# Altium schematic symbol library RC0805.SchLib: 789 symbols (part 10 of 11)
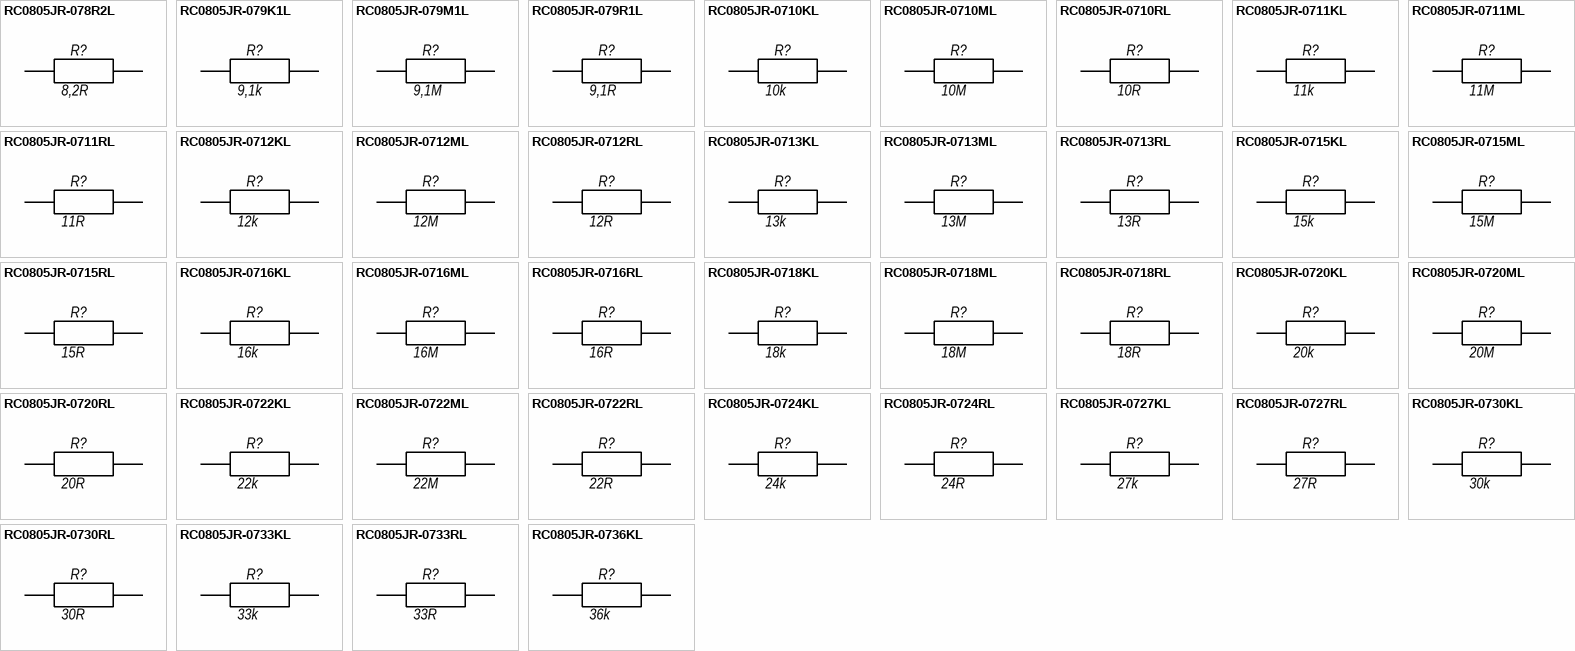
[diagram p28: symbols RC0805JR-078R2L to RC0805JR-0736KL]

## RC0805JR-0720ML
designator R?, comment 20M
RC0805JR-0720ML 0805 20 MOhm ±5% 1/8W 0805 SMD -55C...+155C; Manufacturer: Yageo; BOM2: 20 МОм ±5%, 1/8 Вт, SMD 0805, RC0805JR-0720ML; ValueBOM: RC0805JR-0720ML   Yageo                            (20 МОм ±5%, 1/8 Вт, SMD 0805, RC0805JR-0720ML); Value: 20M; Part Number: RC0805JR-0720ML; Package: 0805; BOM1: 20 MOhm ±5% 1/8W 0805 SMD
footprint RESC_0805_2012N (Chip Resistor, Body 2.0x1.3mm, IPC Medium Density)
footprint RESC_0805_2012M (Chip Resistor, Body 2.0x1.3mm, IPC Low Density)
footprint RESC_0805_2012L (Chip Resistor, Body 2.0x1.3mm, IPC High Density)
pins: 1, 2

## RC0805JR-0720RL
designator R?, comment 20R
RC0805JR-0720RL 0805 20 Ohm ±5% 1/8W 0805 SMD -55C...+155C; Manufacturer: Yageo; BOM2: 20 Ом ±5%, 1/8 Вт, SMD 0805, RC0805JR-0720RL; ValueBOM: RC0805JR-0720RL   Yageo                            (20 Ом ±5%, 1/8 Вт, SMD 0805, RC0805JR-0720RL); Value: 20R; Part Number: RC0805JR-0720RL; Package: 0805; BOM1: 20 Ohm ±5% 1/8W 0805 SMD
footprint RESC_0805_2012N (Chip Resistor, Body 2.0x1.3mm, IPC Medium Density)
footprint RESC_0805_2012M (Chip Resistor, Body 2.0x1.3mm, IPC Low Density)
footprint RESC_0805_2012L (Chip Resistor, Body 2.0x1.3mm, IPC High Density)
pins: 1, 2

## RC0805JR-0722KL
designator R?, comment 22k
RC0805JR-0722KL 0805 22 kOhm ±5% 1/8W 0805 SMD -55C...+155C; Manufacturer: Yageo; BOM2: 22 кОм ±5%, 1/8 Вт, SMD 0805, RC0805JR-0722KL; ValueBOM: RC0805JR-0722KL   Yageo                            (22 кОм ±5%, 1/8 Вт, SMD 0805, RC0805JR-0722KL); Value: 22k; Part Number: RC0805JR-0722KL; Package: 0805; BOM1: 22 kOhm ±5% 1/8W 0805 SMD
footprint RESC_0805_2012N (Chip Resistor, Body 2.0x1.3mm, IPC Medium Density)
footprint RESC_0805_2012M (Chip Resistor, Body 2.0x1.3mm, IPC Low Density)
footprint RESC_0805_2012L (Chip Resistor, Body 2.0x1.3mm, IPC High Density)
pins: 1, 2

## RC0805JR-0722ML
designator R?, comment 22M
RC0805JR-0722ML 0805 22 MOhm ±5% 1/8W 0805 SMD -55C...+155C; Manufacturer: Yageo; BOM2: 22 МОм ±5%, 1/8 Вт, SMD 0805, RC0805JR-0722ML; ValueBOM: RC0805JR-0722ML   Yageo                            (22 МОм ±5%, 1/8 Вт, SMD 0805, RC0805JR-0722ML); Value: 22M; Part Number: RC0805JR-0722ML; Package: 0805; BOM1: 22 MOhm ±5% 1/8W 0805 SMD
footprint RESC_0805_2012N (Chip Resistor, Body 2.0x1.3mm, IPC Medium Density)
footprint RESC_0805_2012M (Chip Resistor, Body 2.0x1.3mm, IPC Low Density)
footprint RESC_0805_2012L (Chip Resistor, Body 2.0x1.3mm, IPC High Density)
pins: 1, 2

## RC0805JR-0722RL
designator R?, comment 22R
RC0805JR-0722RL 0805 22 Ohm ±5% 1/8W 0805 SMD -55C...+155C; Manufacturer: Yageo; BOM2: 22 Ом ±5%, 1/8 Вт, SMD 0805, RC0805JR-0722RL; ValueBOM: RC0805JR-0722RL   Yageo                            (22 Ом ±5%, 1/8 Вт, SMD 0805, RC0805JR-0722RL); Value: 22R; Part Number: RC0805JR-0722RL; Package: 0805; BOM1: 22 Ohm ±5% 1/8W 0805 SMD
footprint RESC_0805_2012N (Chip Resistor, Body 2.0x1.3mm, IPC Medium Density)
footprint RESC_0805_2012M (Chip Resistor, Body 2.0x1.3mm, IPC Low Density)
footprint RESC_0805_2012L (Chip Resistor, Body 2.0x1.3mm, IPC High Density)
pins: 1, 2

## RC0805JR-0724KL
designator R?, comment 24k
RC0805JR-0724KL 0805 24 kOhm ±5% 1/8W 0805 SMD -55C...+155C; Manufacturer: Yageo; BOM2: 24 кОм ±5%, 1/8 Вт, SMD 0805, RC0805JR-0724KL; ValueBOM: RC0805JR-0724KL   Yageo                            (24 кОм ±5%, 1/8 Вт, SMD 0805, RC0805JR-0724KL); Value: 24k; Part Number: RC0805JR-0724KL; Package: 0805; BOM1: 24 kOhm ±5% 1/8W 0805 SMD
footprint RESC_0805_2012N (Chip Resistor, Body 2.0x1.3mm, IPC Medium Density)
footprint RESC_0805_2012M (Chip Resistor, Body 2.0x1.3mm, IPC Low Density)
footprint RESC_0805_2012L (Chip Resistor, Body 2.0x1.3mm, IPC High Density)
pins: 1, 2

## RC0805JR-0724RL
designator R?, comment 24R
RC0805JR-0724RL 0805 24 Ohm ±5% 1/8W 0805 SMD -55C...+155C; Manufacturer: Yageo; BOM2: 24 Ом ±5%, 1/8 Вт, SMD 0805, RC0805JR-0724RL; ValueBOM: RC0805JR-0724RL   Yageo                            (24 Ом ±5%, 1/8 Вт, SMD 0805, RC0805JR-0724RL); Value: 24R; Part Number: RC0805JR-0724RL; Package: 0805; BOM1: 24 Ohm ±5% 1/8W 0805 SMD
footprint RESC_0805_2012N (Chip Resistor, Body 2.0x1.3mm, IPC Medium Density)
footprint RESC_0805_2012M (Chip Resistor, Body 2.0x1.3mm, IPC Low Density)
footprint RESC_0805_2012L (Chip Resistor, Body 2.0x1.3mm, IPC High Density)
pins: 1, 2

## RC0805JR-0727KL
designator R?, comment 27k
RC0805JR-0727KL 0805 27 kOhm ±5% 1/8W 0805 SMD -55C...+155C; Manufacturer: Yageo; BOM2: 27 кОм ±5%, 1/8 Вт, SMD 0805, RC0805JR-0727KL; ValueBOM: RC0805JR-0727KL   Yageo                            (27 кОм ±5%, 1/8 Вт, SMD 0805, RC0805JR-0727KL); Value: 27k; Part Number: RC0805JR-0727KL; Package: 0805; BOM1: 27 kOhm ±5% 1/8W 0805 SMD
footprint RESC_0805_2012N (Chip Resistor, Body 2.0x1.3mm, IPC Medium Density)
footprint RESC_0805_2012M (Chip Resistor, Body 2.0x1.3mm, IPC Low Density)
footprint RESC_0805_2012L (Chip Resistor, Body 2.0x1.3mm, IPC High Density)
pins: 1, 2

## RC0805JR-0727RL
designator R?, comment 27R
RC0805JR-0727RL 0805 27 Ohm ±5% 1/8W 0805 SMD -55C...+155C; Manufacturer: Yageo; BOM2: 27 Ом ±5%, 1/8 Вт, SMD 0805, RC0805JR-0727RL; ValueBOM: RC0805JR-0727RL   Yageo                            (27 Ом ±5%, 1/8 Вт, SMD 0805, RC0805JR-0727RL); Value: 27R; Part Number: RC0805JR-0727RL; Package: 0805; BOM1: 27 Ohm ±5% 1/8W 0805 SMD
footprint RESC_0805_2012N (Chip Resistor, Body 2.0x1.3mm, IPC Medium Density)
footprint RESC_0805_2012M (Chip Resistor, Body 2.0x1.3mm, IPC Low Density)
footprint RESC_0805_2012L (Chip Resistor, Body 2.0x1.3mm, IPC High Density)
pins: 1, 2

## RC0805JR-0730KL
designator R?, comment 30k
RC0805JR-0730KL 0805 30 kOhm ±5% 1/8W 0805 SMD -55C...+155C; Manufacturer: Yageo; BOM2: 30 кОм ±5%, 1/8 Вт, SMD 0805, RC0805JR-0730KL; ValueBOM: RC0805JR-0730KL   Yageo                            (30 кОм ±5%, 1/8 Вт, SMD 0805, RC0805JR-0730KL); Value: 30k; Part Number: RC0805JR-0730KL; Package: 0805; BOM1: 30 kOhm ±5% 1/8W 0805 SMD
footprint RESC_0805_2012N (Chip Resistor, Body 2.0x1.3mm, IPC Medium Density)
footprint RESC_0805_2012M (Chip Resistor, Body 2.0x1.3mm, IPC Low Density)
footprint RESC_0805_2012L (Chip Resistor, Body 2.0x1.3mm, IPC High Density)
pins: 1, 2

## RC0805JR-0730RL
designator R?, comment 30R
RC0805JR-0730RL 0805 30 Ohm ±5% 1/8W 0805 SMD -55C...+155C; Manufacturer: Yageo; BOM2: 30 Ом ±5%, 1/8 Вт, SMD 0805, RC0805JR-0730RL; ValueBOM: RC0805JR-0730RL   Yageo                            (30 Ом ±5%, 1/8 Вт, SMD 0805, RC0805JR-0730RL); Value: 30R; Part Number: RC0805JR-0730RL; Package: 0805; BOM1: 30 Ohm ±5% 1/8W 0805 SMD
footprint RESC_0805_2012N (Chip Resistor, Body 2.0x1.3mm, IPC Medium Density)
footprint RESC_0805_2012M (Chip Resistor, Body 2.0x1.3mm, IPC Low Density)
footprint RESC_0805_2012L (Chip Resistor, Body 2.0x1.3mm, IPC High Density)
pins: 1, 2

## RC0805JR-0733KL
designator R?, comment 33k
RC0805JR-0733KL 0805 33 kOhm ±5% 1/8W 0805 SMD -55C...+155C; Manufacturer: Yageo; BOM2: 33 кОм ±5%, 1/8 Вт, SMD 0805, RC0805JR-0733KL; ValueBOM: RC0805JR-0733KL   Yageo                            (33 кОм ±5%, 1/8 Вт, SMD 0805, RC0805JR-0733KL); Value: 33k; Part Number: RC0805JR-0733KL; Package: 0805; BOM1: 33 kOhm ±5% 1/8W 0805 SMD
footprint RESC_0805_2012N (Chip Resistor, Body 2.0x1.3mm, IPC Medium Density)
footprint RESC_0805_2012M (Chip Resistor, Body 2.0x1.3mm, IPC Low Density)
footprint RESC_0805_2012L (Chip Resistor, Body 2.0x1.3mm, IPC High Density)
pins: 1, 2

## RC0805JR-0733RL
designator R?, comment 33R
RC0805JR-0733RL 0805 33 Ohm ±5% 1/8W 0805 SMD -55C...+155C; Manufacturer: Yageo; BOM2: 33 Ом ±5%, 1/8 Вт, SMD 0805, RC0805JR-0733RL; ValueBOM: RC0805JR-0733RL   Yageo                            (33 Ом ±5%, 1/8 Вт, SMD 0805, RC0805JR-0733RL); Value: 33R; Part Number: RC0805JR-0733RL; Package: 0805; BOM1: 33 Ohm ±5% 1/8W 0805 SMD
footprint RESC_0805_2012N (Chip Resistor, Body 2.0x1.3mm, IPC Medium Density)
footprint RESC_0805_2012M (Chip Resistor, Body 2.0x1.3mm, IPC Low Density)
footprint RESC_0805_2012L (Chip Resistor, Body 2.0x1.3mm, IPC High Density)
pins: 1, 2

## RC0805JR-0736KL
designator R?, comment 36k
RC0805JR-0736KL 0805 36 kOhm ±5% 1/8W 0805 SMD -55C...+155C; Manufacturer: Yageo; BOM2: 36 кОм ±5%, 1/8 Вт, SMD 0805, RC0805JR-0736KL; ValueBOM: RC0805JR-0736KL   Yageo                            (36 кОм ±5%, 1/8 Вт, SMD 0805, RC0805JR-0736KL); Value: 36k; Part Number: RC0805JR-0736KL; Package: 0805; BOM1: 36 kOhm ±5% 1/8W 0805 SMD
footprint RESC_0805_2012N (Chip Resistor, Body 2.0x1.3mm, IPC Medium Density)
footprint RESC_0805_2012M (Chip Resistor, Body 2.0x1.3mm, IPC Low Density)
footprint RESC_0805_2012L (Chip Resistor, Body 2.0x1.3mm, IPC High Density)
pins: 1, 2

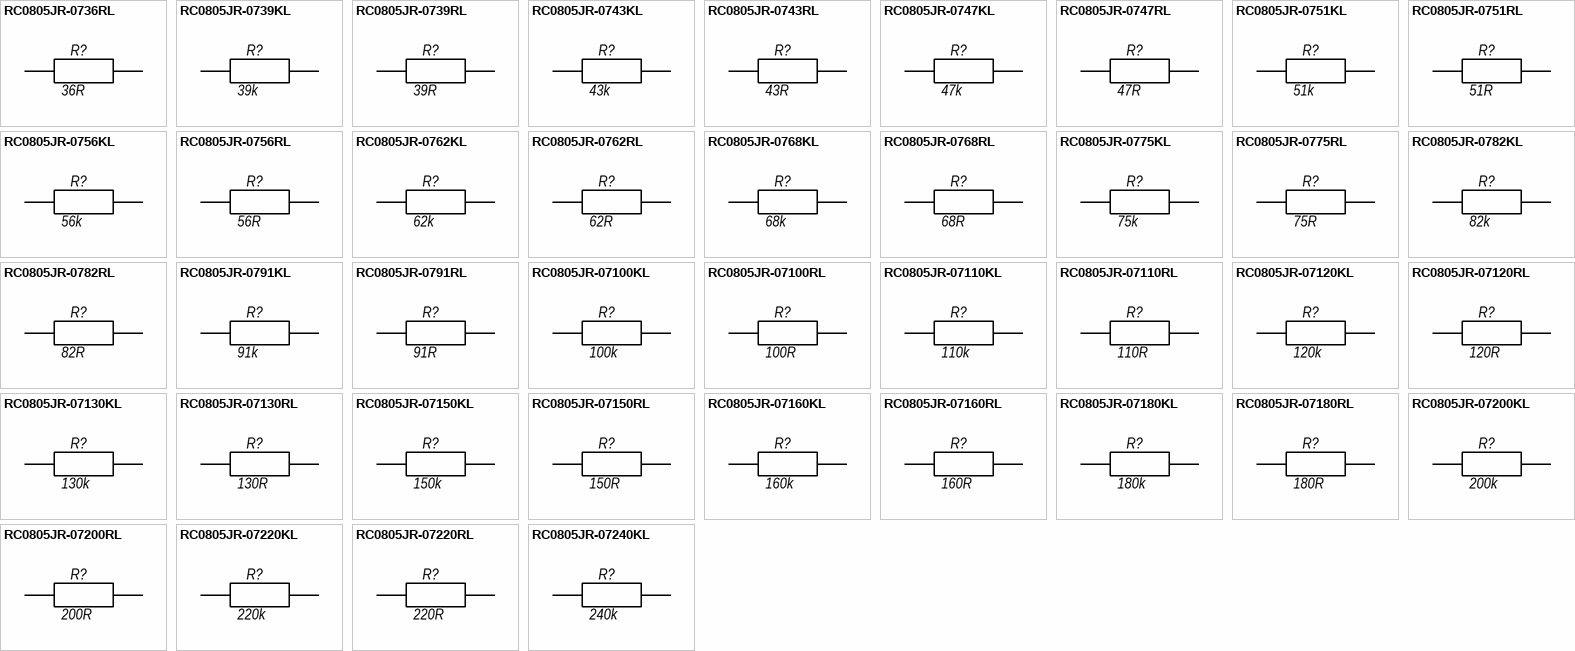
[diagram p18: symbols RC0805JR-0736RL to RC0805JR-07240KL]

## RC0805JR-0736RL
designator R?, comment 36R
RC0805JR-0736RL 0805 36 Ohm ±5% 1/8W 0805 SMD -55C...+155C; Manufacturer: Yageo; BOM2: 36 Ом ±5%, 1/8 Вт, SMD 0805, RC0805JR-0736RL; ValueBOM: RC0805JR-0736RL   Yageo                            (36 Ом ±5%, 1/8 Вт, SMD 0805, RC0805JR-0736RL); Value: 36R; Part Number: RC0805JR-0736RL; Package: 0805; BOM1: 36 Ohm ±5% 1/8W 0805 SMD
footprint RESC_0805_2012N (Chip Resistor, Body 2.0x1.3mm, IPC Medium Density)
footprint RESC_0805_2012M (Chip Resistor, Body 2.0x1.3mm, IPC Low Density)
footprint RESC_0805_2012L (Chip Resistor, Body 2.0x1.3mm, IPC High Density)
pins: 1, 2

## RC0805JR-0739KL
designator R?, comment 39k
RC0805JR-0739KL 0805 39 kOhm ±5% 1/8W 0805 SMD -55C...+155C; Manufacturer: Yageo; BOM2: 39 кОм ±5%, 1/8 Вт, SMD 0805, RC0805JR-0739KL; ValueBOM: RC0805JR-0739KL   Yageo                            (39 кОм ±5%, 1/8 Вт, SMD 0805, RC0805JR-0739KL); Value: 39k; Part Number: RC0805JR-0739KL; Package: 0805; BOM1: 39 kOhm ±5% 1/8W 0805 SMD
footprint RESC_0805_2012N (Chip Resistor, Body 2.0x1.3mm, IPC Medium Density)
footprint RESC_0805_2012M (Chip Resistor, Body 2.0x1.3mm, IPC Low Density)
footprint RESC_0805_2012L (Chip Resistor, Body 2.0x1.3mm, IPC High Density)
pins: 1, 2

## RC0805JR-0739RL
designator R?, comment 39R
RC0805JR-0739RL 0805 39 Ohm ±5% 1/8W 0805 SMD -55C...+155C; Manufacturer: Yageo; BOM2: 39 Ом ±5%, 1/8 Вт, SMD 0805, RC0805JR-0739RL; ValueBOM: RC0805JR-0739RL   Yageo                            (39 Ом ±5%, 1/8 Вт, SMD 0805, RC0805JR-0739RL); Value: 39R; Part Number: RC0805JR-0739RL; Package: 0805; BOM1: 39 Ohm ±5% 1/8W 0805 SMD
footprint RESC_0805_2012N (Chip Resistor, Body 2.0x1.3mm, IPC Medium Density)
footprint RESC_0805_2012M (Chip Resistor, Body 2.0x1.3mm, IPC Low Density)
footprint RESC_0805_2012L (Chip Resistor, Body 2.0x1.3mm, IPC High Density)
pins: 1, 2

## RC0805JR-0743KL
designator R?, comment 43k
RC0805JR-0743KL 0805 43 kOhm ±5% 1/8W 0805 SMD -55C...+155C; Manufacturer: Yageo; BOM2: 43 кОм ±5%, 1/8 Вт, SMD 0805, RC0805JR-0743KL; ValueBOM: RC0805JR-0743KL   Yageo                            (43 кОм ±5%, 1/8 Вт, SMD 0805, RC0805JR-0743KL); Value: 43k; Part Number: RC0805JR-0743KL; Package: 0805; BOM1: 43 kOhm ±5% 1/8W 0805 SMD
footprint RESC_0805_2012N (Chip Resistor, Body 2.0x1.3mm, IPC Medium Density)
footprint RESC_0805_2012M (Chip Resistor, Body 2.0x1.3mm, IPC Low Density)
footprint RESC_0805_2012L (Chip Resistor, Body 2.0x1.3mm, IPC High Density)
pins: 1, 2

## RC0805JR-0743RL
designator R?, comment 43R
RC0805JR-0743RL 0805 43 Ohm ±5% 1/8W 0805 SMD -55C...+155C; Manufacturer: Yageo; BOM2: 43 Ом ±5%, 1/8 Вт, SMD 0805, RC0805JR-0743RL; ValueBOM: RC0805JR-0743RL   Yageo                            (43 Ом ±5%, 1/8 Вт, SMD 0805, RC0805JR-0743RL); Value: 43R; Part Number: RC0805JR-0743RL; Package: 0805; BOM1: 43 Ohm ±5% 1/8W 0805 SMD
footprint RESC_0805_2012N (Chip Resistor, Body 2.0x1.3mm, IPC Medium Density)
footprint RESC_0805_2012M (Chip Resistor, Body 2.0x1.3mm, IPC Low Density)
footprint RESC_0805_2012L (Chip Resistor, Body 2.0x1.3mm, IPC High Density)
pins: 1, 2

## RC0805JR-0747KL
designator R?, comment 47k
RC0805JR-0747KL 0805 47 kOhm ±5% 1/8W 0805 SMD -55C...+155C; Manufacturer: Yageo; BOM2: 47 кОм ±5%, 1/8 Вт, SMD 0805, RC0805JR-0747KL; ValueBOM: RC0805JR-0747KL   Yageo                            (47 кОм ±5%, 1/8 Вт, SMD 0805, RC0805JR-0747KL); Value: 47k; Part Number: RC0805JR-0747KL; Package: 0805; BOM1: 47 kOhm ±5% 1/8W 0805 SMD
footprint RESC_0805_2012N (Chip Resistor, Body 2.0x1.3mm, IPC Medium Density)
footprint RESC_0805_2012M (Chip Resistor, Body 2.0x1.3mm, IPC Low Density)
footprint RESC_0805_2012L (Chip Resistor, Body 2.0x1.3mm, IPC High Density)
pins: 1, 2

## RC0805JR-0747RL
designator R?, comment 47R
RC0805JR-0747RL 0805 47 Ohm ±5% 1/8W 0805 SMD -55C...+155C; Manufacturer: Yageo; BOM2: 47 Ом ±5%, 1/8 Вт, SMD 0805, RC0805JR-0747RL; ValueBOM: RC0805JR-0747RL   Yageo                            (47 Ом ±5%, 1/8 Вт, SMD 0805, RC0805JR-0747RL); Value: 47R; Part Number: RC0805JR-0747RL; Package: 0805; BOM1: 47 Ohm ±5% 1/8W 0805 SMD
footprint RESC_0805_2012N (Chip Resistor, Body 2.0x1.3mm, IPC Medium Density)
footprint RESC_0805_2012M (Chip Resistor, Body 2.0x1.3mm, IPC Low Density)
footprint RESC_0805_2012L (Chip Resistor, Body 2.0x1.3mm, IPC High Density)
pins: 1, 2

## RC0805JR-0751KL
designator R?, comment 51k
RC0805JR-0751KL 0805 51 kOhm ±5% 1/8W 0805 SMD -55C...+155C; Manufacturer: Yageo; BOM2: 51 кОм ±5%, 1/8 Вт, SMD 0805, RC0805JR-0751KL; ValueBOM: RC0805JR-0751KL   Yageo                            (51 кОм ±5%, 1/8 Вт, SMD 0805, RC0805JR-0751KL); Value: 51k; Part Number: RC0805JR-0751KL; Package: 0805; BOM1: 51 kOhm ±5% 1/8W 0805 SMD
footprint RESC_0805_2012N (Chip Resistor, Body 2.0x1.3mm, IPC Medium Density)
footprint RESC_0805_2012M (Chip Resistor, Body 2.0x1.3mm, IPC Low Density)
footprint RESC_0805_2012L (Chip Resistor, Body 2.0x1.3mm, IPC High Density)
pins: 1, 2

## RC0805JR-0751RL
designator R?, comment 51R
RC0805JR-0751RL 0805 51 Ohm ±5% 1/8W 0805 SMD -55C...+155C; Manufacturer: Yageo; BOM2: 51 Ом ±5%, 1/8 Вт, SMD 0805, RC0805JR-0751RL; ValueBOM: RC0805JR-0751RL   Yageo                            (51 Ом ±5%, 1/8 Вт, SMD 0805, RC0805JR-0751RL); Value: 51R; Part Number: RC0805JR-0751RL; Package: 0805; BOM1: 51 Ohm ±5% 1/8W 0805 SMD
footprint RESC_0805_2012N (Chip Resistor, Body 2.0x1.3mm, IPC Medium Density)
footprint RESC_0805_2012M (Chip Resistor, Body 2.0x1.3mm, IPC Low Density)
footprint RESC_0805_2012L (Chip Resistor, Body 2.0x1.3mm, IPC High Density)
pins: 1, 2

## RC0805JR-0756KL
designator R?, comment 56k
RC0805JR-0756KL 0805 56 kOhm ±5% 1/8W 0805 SMD -55C...+155C; Manufacturer: Yageo; BOM2: 56 кОм ±5%, 1/8 Вт, SMD 0805, RC0805JR-0756KL; ValueBOM: RC0805JR-0756KL   Yageo                            (56 кОм ±5%, 1/8 Вт, SMD 0805, RC0805JR-0756KL); Value: 56k; Part Number: RC0805JR-0756KL; Package: 0805; BOM1: 56 kOhm ±5% 1/8W 0805 SMD
footprint RESC_0805_2012N (Chip Resistor, Body 2.0x1.3mm, IPC Medium Density)
footprint RESC_0805_2012M (Chip Resistor, Body 2.0x1.3mm, IPC Low Density)
footprint RESC_0805_2012L (Chip Resistor, Body 2.0x1.3mm, IPC High Density)
pins: 1, 2

## RC0805JR-0756RL
designator R?, comment 56R
RC0805JR-0756RL 0805 56 Ohm ±5% 1/8W 0805 SMD -55C...+155C; Manufacturer: Yageo; BOM2: 56 Ом ±5%, 1/8 Вт, SMD 0805, RC0805JR-0756RL; ValueBOM: RC0805JR-0756RL   Yageo                            (56 Ом ±5%, 1/8 Вт, SMD 0805, RC0805JR-0756RL); Value: 56R; Part Number: RC0805JR-0756RL; Package: 0805; BOM1: 56 Ohm ±5% 1/8W 0805 SMD
footprint RESC_0805_2012N (Chip Resistor, Body 2.0x1.3mm, IPC Medium Density)
footprint RESC_0805_2012M (Chip Resistor, Body 2.0x1.3mm, IPC Low Density)
footprint RESC_0805_2012L (Chip Resistor, Body 2.0x1.3mm, IPC High Density)
pins: 1, 2

## RC0805JR-0762KL
designator R?, comment 62k
RC0805JR-0762KL 0805 62 kOhm ±5% 1/8W 0805 SMD -55C...+155C; Manufacturer: Yageo; BOM2: 62 кОм ±5%, 1/8 Вт, SMD 0805, RC0805JR-0762KL; ValueBOM: RC0805JR-0762KL   Yageo                            (62 кОм ±5%, 1/8 Вт, SMD 0805, RC0805JR-0762KL); Value: 62k; Part Number: RC0805JR-0762KL; Package: 0805; BOM1: 62 kOhm ±5% 1/8W 0805 SMD
footprint RESC_0805_2012N (Chip Resistor, Body 2.0x1.3mm, IPC Medium Density)
footprint RESC_0805_2012M (Chip Resistor, Body 2.0x1.3mm, IPC Low Density)
footprint RESC_0805_2012L (Chip Resistor, Body 2.0x1.3mm, IPC High Density)
pins: 1, 2

## RC0805JR-0762RL
designator R?, comment 62R
RC0805JR-0762RL 0805 62 Ohm ±5% 1/8W 0805 SMD -55C...+155C; Manufacturer: Yageo; BOM2: 62 Ом ±5%, 1/8 Вт, SMD 0805, RC0805JR-0762RL; ValueBOM: RC0805JR-0762RL   Yageo                            (62 Ом ±5%, 1/8 Вт, SMD 0805, RC0805JR-0762RL); Value: 62R; Part Number: RC0805JR-0762RL; Package: 0805; BOM1: 62 Ohm ±5% 1/8W 0805 SMD
footprint RESC_0805_2012N (Chip Resistor, Body 2.0x1.3mm, IPC Medium Density)
footprint RESC_0805_2012M (Chip Resistor, Body 2.0x1.3mm, IPC Low Density)
footprint RESC_0805_2012L (Chip Resistor, Body 2.0x1.3mm, IPC High Density)
pins: 1, 2

## RC0805JR-0768KL
designator R?, comment 68k
RC0805JR-0768KL 0805 68 kOhm ±5% 1/8W 0805 SMD -55C...+155C; Manufacturer: Yageo; BOM2: 68 кОм ±5%, 1/8 Вт, SMD 0805, RC0805JR-0768KL; ValueBOM: RC0805JR-0768KL   Yageo                            (68 кОм ±5%, 1/8 Вт, SMD 0805, RC0805JR-0768KL); Value: 68k; Part Number: RC0805JR-0768KL; Package: 0805; BOM1: 68 kOhm ±5% 1/8W 0805 SMD
footprint RESC_0805_2012N (Chip Resistor, Body 2.0x1.3mm, IPC Medium Density)
footprint RESC_0805_2012M (Chip Resistor, Body 2.0x1.3mm, IPC Low Density)
footprint RESC_0805_2012L (Chip Resistor, Body 2.0x1.3mm, IPC High Density)
pins: 1, 2

## RC0805JR-0768RL
designator R?, comment 68R
RC0805JR-0768RL 0805 68 Ohm ±5% 1/8W 0805 SMD -55C...+155C; Manufacturer: Yageo; BOM2: 68 Ом ±5%, 1/8 Вт, SMD 0805, RC0805JR-0768RL; ValueBOM: RC0805JR-0768RL   Yageo                            (68 Ом ±5%, 1/8 Вт, SMD 0805, RC0805JR-0768RL); Value: 68R; Part Number: RC0805JR-0768RL; Package: 0805; BOM1: 68 Ohm ±5% 1/8W 0805 SMD
footprint RESC_0805_2012N (Chip Resistor, Body 2.0x1.3mm, IPC Medium Density)
footprint RESC_0805_2012M (Chip Resistor, Body 2.0x1.3mm, IPC Low Density)
footprint RESC_0805_2012L (Chip Resistor, Body 2.0x1.3mm, IPC High Density)
pins: 1, 2

## RC0805JR-0775KL
designator R?, comment 75k
RC0805JR-0775KL 0805 75 kOhm ±5% 1/8W 0805 SMD -55C...+155C; Manufacturer: Yageo; BOM2: 75 кОм ±5%, 1/8 Вт, SMD 0805, RC0805JR-0775KL; ValueBOM: RC0805JR-0775KL   Yageo                            (75 кОм ±5%, 1/8 Вт, SMD 0805, RC0805JR-0775KL); Value: 75k; Part Number: RC0805JR-0775KL; Package: 0805; BOM1: 75 kOhm ±5% 1/8W 0805 SMD
footprint RESC_0805_2012N (Chip Resistor, Body 2.0x1.3mm, IPC Medium Density)
footprint RESC_0805_2012M (Chip Resistor, Body 2.0x1.3mm, IPC Low Density)
footprint RESC_0805_2012L (Chip Resistor, Body 2.0x1.3mm, IPC High Density)
pins: 1, 2

## RC0805JR-0775RL
designator R?, comment 75R
RC0805JR-0775RL 0805 75 Ohm ±5% 1/8W 0805 SMD -55C...+155C; Manufacturer: Yageo; BOM2: 75 Ом ±5%, 1/8 Вт, SMD 0805, RC0805JR-0775RL; ValueBOM: RC0805JR-0775RL   Yageo                            (75 Ом ±5%, 1/8 Вт, SMD 0805, RC0805JR-0775RL); Value: 75R; Part Number: RC0805JR-0775RL; Package: 0805; BOM1: 75 Ohm ±5% 1/8W 0805 SMD
footprint RESC_0805_2012N (Chip Resistor, Body 2.0x1.3mm, IPC Medium Density)
footprint RESC_0805_2012M (Chip Resistor, Body 2.0x1.3mm, IPC Low Density)
footprint RESC_0805_2012L (Chip Resistor, Body 2.0x1.3mm, IPC High Density)
pins: 1, 2

## RC0805JR-0782KL
designator R?, comment 82k
RC0805JR-0782KL 0805 82 kOhm ±5% 1/8W 0805 SMD -55C...+155C; Manufacturer: Yageo; BOM2: 82 кОм ±5%, 1/8 Вт, SMD 0805, RC0805JR-0782KL; ValueBOM: RC0805JR-0782KL   Yageo                            (82 кОм ±5%, 1/8 Вт, SMD 0805, RC0805JR-0782KL); Value: 82k; Part Number: RC0805JR-0782KL; Package: 0805; BOM1: 82 kOhm ±5% 1/8W 0805 SMD
footprint RESC_0805_2012N (Chip Resistor, Body 2.0x1.3mm, IPC Medium Density)
footprint RESC_0805_2012M (Chip Resistor, Body 2.0x1.3mm, IPC Low Density)
footprint RESC_0805_2012L (Chip Resistor, Body 2.0x1.3mm, IPC High Density)
pins: 1, 2

## RC0805JR-0782RL
designator R?, comment 82R
RC0805JR-0782RL 0805 82 Ohm ±5% 1/8W 0805 SMD -55C...+155C; Manufacturer: Yageo; BOM2: 82 Ом ±5%, 1/8 Вт, SMD 0805, RC0805JR-0782RL; ValueBOM: RC0805JR-0782RL   Yageo                            (82 Ом ±5%, 1/8 Вт, SMD 0805, RC0805JR-0782RL); Value: 82R; Part Number: RC0805JR-0782RL; Package: 0805; BOM1: 82 Ohm ±5% 1/8W 0805 SMD
footprint RESC_0805_2012N (Chip Resistor, Body 2.0x1.3mm, IPC Medium Density)
footprint RESC_0805_2012M (Chip Resistor, Body 2.0x1.3mm, IPC Low Density)
footprint RESC_0805_2012L (Chip Resistor, Body 2.0x1.3mm, IPC High Density)
pins: 1, 2

## RC0805JR-0791KL
designator R?, comment 91k
RC0805JR-0791KL 0805 91 kOhm ±5% 1/8W 0805 SMD -55C...+155C; Manufacturer: Yageo; BOM2: 91 кОм ±5%, 1/8 Вт, SMD 0805, RC0805JR-0791KL; ValueBOM: RC0805JR-0791KL   Yageo                            (91 кОм ±5%, 1/8 Вт, SMD 0805, RC0805JR-0791KL); Value: 91k; Part Number: RC0805JR-0791KL; Package: 0805; BOM1: 91 kOhm ±5% 1/8W 0805 SMD
footprint RESC_0805_2012N (Chip Resistor, Body 2.0x1.3mm, IPC Medium Density)
footprint RESC_0805_2012M (Chip Resistor, Body 2.0x1.3mm, IPC Low Density)
footprint RESC_0805_2012L (Chip Resistor, Body 2.0x1.3mm, IPC High Density)
pins: 1, 2

## RC0805JR-0791RL
designator R?, comment 91R
RC0805JR-0791RL 0805 91 Ohm ±5% 1/8W 0805 SMD -55C...+155C; Manufacturer: Yageo; BOM2: 91 Ом ±5%, 1/8 Вт, SMD 0805, RC0805JR-0791RL; ValueBOM: RC0805JR-0791RL   Yageo                            (91 Ом ±5%, 1/8 Вт, SMD 0805, RC0805JR-0791RL); Value: 91R; Part Number: RC0805JR-0791RL; Package: 0805; BOM1: 91 Ohm ±5% 1/8W 0805 SMD
footprint RESC_0805_2012N (Chip Resistor, Body 2.0x1.3mm, IPC Medium Density)
footprint RESC_0805_2012M (Chip Resistor, Body 2.0x1.3mm, IPC Low Density)
footprint RESC_0805_2012L (Chip Resistor, Body 2.0x1.3mm, IPC High Density)
pins: 1, 2

## RC0805JR-07100KL
designator R?, comment 100k
RC0805JR-07100KL 0805 100 kOhm ±5% 1/8W 0805 SMD -55C...+155C; Manufacturer: Yageo; BOM2: 100 кОм ±5%, 1/8 Вт, SMD 0805, RC0805JR-07100KL; ValueBOM: RC0805JR-07100KL   Yageo                            (100 кОм ±5%, 1/8 Вт, SMD 0805, RC0805JR-07100KL); Value: 100k; Part Number: RC0805JR-07100KL; Package: 0805; BOM1: 100 kOhm ±5% 1/8W 0805 SMD
footprint RESC_0805_2012N (Chip Resistor, Body 2.0x1.3mm, IPC Medium Density)
footprint RESC_0805_2012M (Chip Resistor, Body 2.0x1.3mm, IPC Low Density)
footprint RESC_0805_2012L (Chip Resistor, Body 2.0x1.3mm, IPC High Density)
pins: 1, 2

## RC0805JR-07100RL
designator R?, comment 100R
RC0805JR-07100RL 0805 100 Ohm ±5% 1/8W 0805 SMD -55C...+155C; Manufacturer: Yageo; BOM2: 100 Ом ±5%, 1/8 Вт, SMD 0805, RC0805JR-07100RL; ValueBOM: RC0805JR-07100RL   Yageo                            (100 Ом ±5%, 1/8 Вт, SMD 0805, RC0805JR-07100RL); Value: 100R; Part Number: RC0805JR-07100RL; Package: 0805; BOM1: 100 Ohm ±5% 1/8W 0805 SMD
footprint RESC_0805_2012N (Chip Resistor, Body 2.0x1.3mm, IPC Medium Density)
footprint RESC_0805_2012M (Chip Resistor, Body 2.0x1.3mm, IPC Low Density)
footprint RESC_0805_2012L (Chip Resistor, Body 2.0x1.3mm, IPC High Density)
pins: 1, 2

## RC0805JR-07110KL
designator R?, comment 110k
RC0805JR-07110KL 0805 110 kOhm ±5% 1/8W 0805 SMD -55C...+155C; Manufacturer: Yageo; BOM2: 110 кОм ±5%, 1/8 Вт, SMD 0805, RC0805JR-07110KL; ValueBOM: RC0805JR-07110KL   Yageo                            (110 кОм ±5%, 1/8 Вт, SMD 0805, RC0805JR-07110KL); Value: 110k; Part Number: RC0805JR-07110KL; Package: 0805; BOM1: 110 kOhm ±5% 1/8W 0805 SMD
footprint RESC_0805_2012N (Chip Resistor, Body 2.0x1.3mm, IPC Medium Density)
footprint RESC_0805_2012M (Chip Resistor, Body 2.0x1.3mm, IPC Low Density)
footprint RESC_0805_2012L (Chip Resistor, Body 2.0x1.3mm, IPC High Density)
pins: 1, 2

## RC0805JR-07110RL
designator R?, comment 110R
RC0805JR-07110RL 0805 110 Ohm ±5% 1/8W 0805 SMD -55C...+155C; Manufacturer: Yageo; BOM2: 110 Ом ±5%, 1/8 Вт, SMD 0805, RC0805JR-07110RL; ValueBOM: RC0805JR-07110RL   Yageo                            (110 Ом ±5%, 1/8 Вт, SMD 0805, RC0805JR-07110RL); Value: 110R; Part Number: RC0805JR-07110RL; Package: 0805; BOM1: 110 Ohm ±5% 1/8W 0805 SMD
footprint RESC_0805_2012N (Chip Resistor, Body 2.0x1.3mm, IPC Medium Density)
footprint RESC_0805_2012M (Chip Resistor, Body 2.0x1.3mm, IPC Low Density)
footprint RESC_0805_2012L (Chip Resistor, Body 2.0x1.3mm, IPC High Density)
pins: 1, 2

## RC0805JR-07120KL
designator R?, comment 120k
RC0805JR-07120KL 0805 120 kOhm ±5% 1/8W 0805 SMD -55C...+155C; Manufacturer: Yageo; BOM2: 120 кОм ±5%, 1/8 Вт, SMD 0805, RC0805JR-07120KL; ValueBOM: RC0805JR-07120KL   Yageo                            (120 кОм ±5%, 1/8 Вт, SMD 0805, RC0805JR-07120KL); Value: 120k; Part Number: RC0805JR-07120KL; Package: 0805; BOM1: 120 kOhm ±5% 1/8W 0805 SMD
footprint RESC_0805_2012N (Chip Resistor, Body 2.0x1.3mm, IPC Medium Density)
footprint RESC_0805_2012M (Chip Resistor, Body 2.0x1.3mm, IPC Low Density)
footprint RESC_0805_2012L (Chip Resistor, Body 2.0x1.3mm, IPC High Density)
pins: 1, 2

## RC0805JR-07120RL
designator R?, comment 120R
RC0805JR-07120RL 0805 120 Ohm ±5% 1/8W 0805 SMD -55C...+155C; Manufacturer: Yageo; BOM2: 120 Ом ±5%, 1/8 Вт, SMD 0805, RC0805JR-07120RL; ValueBOM: RC0805JR-07120RL   Yageo                            (120 Ом ±5%, 1/8 Вт, SMD 0805, RC0805JR-07120RL); Value: 120R; Part Number: RC0805JR-07120RL; Package: 0805; BOM1: 120 Ohm ±5% 1/8W 0805 SMD
footprint RESC_0805_2012N (Chip Resistor, Body 2.0x1.3mm, IPC Medium Density)
footprint RESC_0805_2012M (Chip Resistor, Body 2.0x1.3mm, IPC Low Density)
footprint RESC_0805_2012L (Chip Resistor, Body 2.0x1.3mm, IPC High Density)
pins: 1, 2

## RC0805JR-07130KL
designator R?, comment 130k
RC0805JR-07130KL 0805 130 kOhm ±5% 1/8W 0805 SMD -55C...+155C; Manufacturer: Yageo; BOM2: 130 кОм ±5%, 1/8 Вт, SMD 0805, RC0805JR-07130KL; ValueBOM: RC0805JR-07130KL   Yageo                            (130 кОм ±5%, 1/8 Вт, SMD 0805, RC0805JR-07130KL); Value: 130k; Part Number: RC0805JR-07130KL; Package: 0805; BOM1: 130 kOhm ±5% 1/8W 0805 SMD
footprint RESC_0805_2012N (Chip Resistor, Body 2.0x1.3mm, IPC Medium Density)
footprint RESC_0805_2012M (Chip Resistor, Body 2.0x1.3mm, IPC Low Density)
footprint RESC_0805_2012L (Chip Resistor, Body 2.0x1.3mm, IPC High Density)
pins: 1, 2

## RC0805JR-07130RL
designator R?, comment 130R
RC0805JR-07130RL 0805 130 Ohm ±5% 1/8W 0805 SMD -55C...+155C; Manufacturer: Yageo; BOM2: 130 Ом ±5%, 1/8 Вт, SMD 0805, RC0805JR-07130RL; ValueBOM: RC0805JR-07130RL   Yageo                            (130 Ом ±5%, 1/8 Вт, SMD 0805, RC0805JR-07130RL); Value: 130R; Part Number: RC0805JR-07130RL; Package: 0805; BOM1: 130 Ohm ±5% 1/8W 0805 SMD
footprint RESC_0805_2012N (Chip Resistor, Body 2.0x1.3mm, IPC Medium Density)
footprint RESC_0805_2012M (Chip Resistor, Body 2.0x1.3mm, IPC Low Density)
footprint RESC_0805_2012L (Chip Resistor, Body 2.0x1.3mm, IPC High Density)
pins: 1, 2

## RC0805JR-07150KL
designator R?, comment 150k
RC0805JR-07150KL 0805 150 kOhm ±5% 1/8W 0805 SMD -55C...+155C; Manufacturer: Yageo; BOM2: 150 кОм ±5%, 1/8 Вт, SMD 0805, RC0805JR-07150KL; ValueBOM: RC0805JR-07150KL   Yageo                            (150 кОм ±5%, 1/8 Вт, SMD 0805, RC0805JR-07150KL); Value: 150k; Part Number: RC0805JR-07150KL; Package: 0805; BOM1: 150 kOhm ±5% 1/8W 0805 SMD
footprint RESC_0805_2012N (Chip Resistor, Body 2.0x1.3mm, IPC Medium Density)
footprint RESC_0805_2012M (Chip Resistor, Body 2.0x1.3mm, IPC Low Density)
footprint RESC_0805_2012L (Chip Resistor, Body 2.0x1.3mm, IPC High Density)
pins: 1, 2

## RC0805JR-07150RL
designator R?, comment 150R
RC0805JR-07150RL 0805 150 Ohm ±5% 1/8W 0805 SMD -55C...+155C; Manufacturer: Yageo; BOM2: 150 Ом ±5%, 1/8 Вт, SMD 0805, RC0805JR-07150RL; ValueBOM: RC0805JR-07150RL   Yageo                            (150 Ом ±5%, 1/8 Вт, SMD 0805, RC0805JR-07150RL); Value: 150R; Part Number: RC0805JR-07150RL; Package: 0805; BOM1: 150 Ohm ±5% 1/8W 0805 SMD
footprint RESC_0805_2012N (Chip Resistor, Body 2.0x1.3mm, IPC Medium Density)
footprint RESC_0805_2012M (Chip Resistor, Body 2.0x1.3mm, IPC Low Density)
footprint RESC_0805_2012L (Chip Resistor, Body 2.0x1.3mm, IPC High Density)
pins: 1, 2

## RC0805JR-07160KL
designator R?, comment 160k
RC0805JR-07160KL 0805 160 kOhm ±5% 1/8W 0805 SMD -55C...+155C; Manufacturer: Yageo; BOM2: 160 кОм ±5%, 1/8 Вт, SMD 0805, RC0805JR-07160KL; ValueBOM: RC0805JR-07160KL   Yageo                            (160 кОм ±5%, 1/8 Вт, SMD 0805, RC0805JR-07160KL); Value: 160k; Part Number: RC0805JR-07160KL; Package: 0805; BOM1: 160 kOhm ±5% 1/8W 0805 SMD
footprint RESC_0805_2012N (Chip Resistor, Body 2.0x1.3mm, IPC Medium Density)
footprint RESC_0805_2012M (Chip Resistor, Body 2.0x1.3mm, IPC Low Density)
footprint RESC_0805_2012L (Chip Resistor, Body 2.0x1.3mm, IPC High Density)
pins: 1, 2

## RC0805JR-07160RL
designator R?, comment 160R
RC0805JR-07160RL 0805 160 Ohm ±5% 1/8W 0805 SMD -55C...+155C; Manufacturer: Yageo; BOM2: 160 Ом ±5%, 1/8 Вт, SMD 0805, RC0805JR-07160RL; ValueBOM: RC0805JR-07160RL   Yageo                            (160 Ом ±5%, 1/8 Вт, SMD 0805, RC0805JR-07160RL); Value: 160R; Part Number: RC0805JR-07160RL; Package: 0805; BOM1: 160 Ohm ±5% 1/8W 0805 SMD
footprint RESC_0805_2012N (Chip Resistor, Body 2.0x1.3mm, IPC Medium Density)
footprint RESC_0805_2012M (Chip Resistor, Body 2.0x1.3mm, IPC Low Density)
footprint RESC_0805_2012L (Chip Resistor, Body 2.0x1.3mm, IPC High Density)
pins: 1, 2

## RC0805JR-07180KL
designator R?, comment 180k
RC0805JR-07180KL 0805 180 kOhm ±5% 1/8W 0805 SMD -55C...+155C; Manufacturer: Yageo; BOM2: 180 кОм ±5%, 1/8 Вт, SMD 0805, RC0805JR-07180KL; ValueBOM: RC0805JR-07180KL   Yageo                            (180 кОм ±5%, 1/8 Вт, SMD 0805, RC0805JR-07180KL); Value: 180k; Part Number: RC0805JR-07180KL; Package: 0805; BOM1: 180 kOhm ±5% 1/8W 0805 SMD
footprint RESC_0805_2012N (Chip Resistor, Body 2.0x1.3mm, IPC Medium Density)
footprint RESC_0805_2012M (Chip Resistor, Body 2.0x1.3mm, IPC Low Density)
footprint RESC_0805_2012L (Chip Resistor, Body 2.0x1.3mm, IPC High Density)
pins: 1, 2

## RC0805JR-07180RL
designator R?, comment 180R
RC0805JR-07180RL 0805 180 Ohm ±5% 1/8W 0805 SMD -55C...+155C; Manufacturer: Yageo; BOM2: 180 Ом ±5%, 1/8 Вт, SMD 0805, RC0805JR-07180RL; ValueBOM: RC0805JR-07180RL   Yageo                            (180 Ом ±5%, 1/8 Вт, SMD 0805, RC0805JR-07180RL); Value: 180R; Part Number: RC0805JR-07180RL; Package: 0805; BOM1: 180 Ohm ±5% 1/8W 0805 SMD
footprint RESC_0805_2012N (Chip Resistor, Body 2.0x1.3mm, IPC Medium Density)
footprint RESC_0805_2012M (Chip Resistor, Body 2.0x1.3mm, IPC Low Density)
footprint RESC_0805_2012L (Chip Resistor, Body 2.0x1.3mm, IPC High Density)
pins: 1, 2

## RC0805JR-07200KL
designator R?, comment 200k
RC0805JR-07200KL 0805 200 kOhm ±5% 1/8W 0805 SMD -55C...+155C; Manufacturer: Yageo; BOM2: 200 кОм ±5%, 1/8 Вт, SMD 0805, RC0805JR-07200KL; ValueBOM: RC0805JR-07200KL   Yageo                            (200 кОм ±5%, 1/8 Вт, SMD 0805, RC0805JR-07200KL); Value: 200k; Part Number: RC0805JR-07200KL; Package: 0805; BOM1: 200 kOhm ±5% 1/8W 0805 SMD
footprint RESC_0805_2012N (Chip Resistor, Body 2.0x1.3mm, IPC Medium Density)
footprint RESC_0805_2012M (Chip Resistor, Body 2.0x1.3mm, IPC Low Density)
footprint RESC_0805_2012L (Chip Resistor, Body 2.0x1.3mm, IPC High Density)
pins: 1, 2

## RC0805JR-07200RL
designator R?, comment 200R
RC0805JR-07200RL 0805 200 Ohm ±5% 1/8W 0805 SMD -55C...+155C; Manufacturer: Yageo; BOM2: 200 Ом ±5%, 1/8 Вт, SMD 0805, RC0805JR-07200RL; ValueBOM: RC0805JR-07200RL   Yageo                            (200 Ом ±5%, 1/8 Вт, SMD 0805, RC0805JR-07200RL); Value: 200R; Part Number: RC0805JR-07200RL; Package: 0805; BOM1: 200 Ohm ±5% 1/8W 0805 SMD
footprint RESC_0805_2012N (Chip Resistor, Body 2.0x1.3mm, IPC Medium Density)
footprint RESC_0805_2012M (Chip Resistor, Body 2.0x1.3mm, IPC Low Density)
footprint RESC_0805_2012L (Chip Resistor, Body 2.0x1.3mm, IPC High Density)
pins: 1, 2

## RC0805JR-07220KL
designator R?, comment 220k
RC0805JR-07220KL 0805 220 kOhm ±5% 1/8W 0805 SMD -55C...+155C; Manufacturer: Yageo; BOM2: 220 кОм ±5%, 1/8 Вт, SMD 0805, RC0805JR-07220KL; ValueBOM: RC0805JR-07220KL   Yageo                            (220 кОм ±5%, 1/8 Вт, SMD 0805, RC0805JR-07220KL); Value: 220k; Part Number: RC0805JR-07220KL; Package: 0805; BOM1: 220 kOhm ±5% 1/8W 0805 SMD
footprint RESC_0805_2012N (Chip Resistor, Body 2.0x1.3mm, IPC Medium Density)
footprint RESC_0805_2012M (Chip Resistor, Body 2.0x1.3mm, IPC Low Density)
footprint RESC_0805_2012L (Chip Resistor, Body 2.0x1.3mm, IPC High Density)
pins: 1, 2

## RC0805JR-07220RL
designator R?, comment 220R
RC0805JR-07220RL 0805 220 Ohm ±5% 1/8W 0805 SMD -55C...+155C; Manufacturer: Yageo; BOM2: 220 Ом ±5%, 1/8 Вт, SMD 0805, RC0805JR-07220RL; ValueBOM: RC0805JR-07220RL   Yageo                            (220 Ом ±5%, 1/8 Вт, SMD 0805, RC0805JR-07220RL); Value: 220R; Part Number: RC0805JR-07220RL; Package: 0805; BOM1: 220 Ohm ±5% 1/8W 0805 SMD
footprint RESC_0805_2012N (Chip Resistor, Body 2.0x1.3mm, IPC Medium Density)
footprint RESC_0805_2012M (Chip Resistor, Body 2.0x1.3mm, IPC Low Density)
footprint RESC_0805_2012L (Chip Resistor, Body 2.0x1.3mm, IPC High Density)
pins: 1, 2

## RC0805JR-07240KL
designator R?, comment 240k
RC0805JR-07240KL 0805 240 kOhm ±5% 1/8W 0805 SMD -55C...+155C; Manufacturer: Yageo; BOM2: 240 кОм ±5%, 1/8 Вт, SMD 0805, RC0805JR-07240KL; ValueBOM: RC0805JR-07240KL   Yageo                            (240 кОм ±5%, 1/8 Вт, SMD 0805, RC0805JR-07240KL); Value: 240k; Part Number: RC0805JR-07240KL; Package: 0805; BOM1: 240 kOhm ±5% 1/8W 0805 SMD
footprint RESC_0805_2012N (Chip Resistor, Body 2.0x1.3mm, IPC Medium Density)
footprint RESC_0805_2012M (Chip Resistor, Body 2.0x1.3mm, IPC Low Density)
footprint RESC_0805_2012L (Chip Resistor, Body 2.0x1.3mm, IPC High Density)
pins: 1, 2

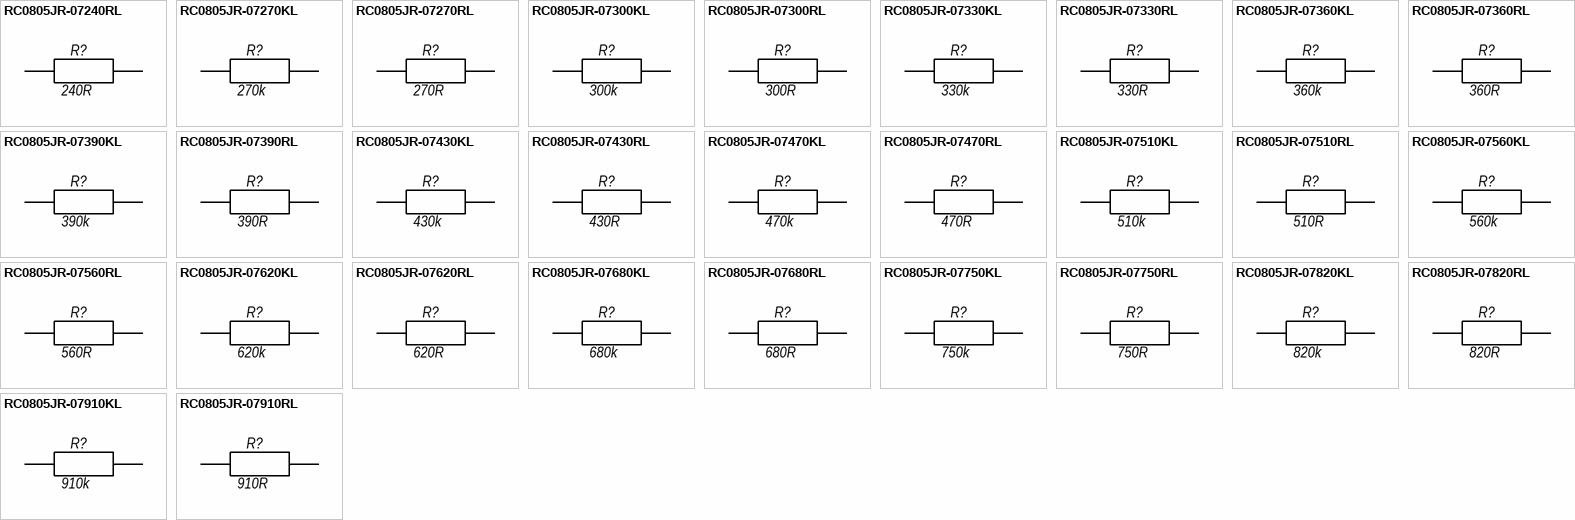
[diagram p19: symbols RC0805JR-07240RL to RC0805JR-07910RL]

## RC0805JR-07240RL
designator R?, comment 240R
RC0805JR-07240RL 0805 240 Ohm ±5% 1/8W 0805 SMD -55C...+155C; Manufacturer: Yageo; BOM2: 240 Ом ±5%, 1/8 Вт, SMD 0805, RC0805JR-07240RL; ValueBOM: RC0805JR-07240RL   Yageo                            (240 Ом ±5%, 1/8 Вт, SMD 0805, RC0805JR-07240RL); Value: 240R; Part Number: RC0805JR-07240RL; Package: 0805; BOM1: 240 Ohm ±5% 1/8W 0805 SMD
footprint RESC_0805_2012N (Chip Resistor, Body 2.0x1.3mm, IPC Medium Density)
footprint RESC_0805_2012M (Chip Resistor, Body 2.0x1.3mm, IPC Low Density)
footprint RESC_0805_2012L (Chip Resistor, Body 2.0x1.3mm, IPC High Density)
pins: 1, 2

## RC0805JR-07270KL
designator R?, comment 270k
RC0805JR-07270KL 0805 270 kOhm ±5% 1/8W 0805 SMD -55C...+155C; Manufacturer: Yageo; BOM2: 270 кОм ±5%, 1/8 Вт, SMD 0805, RC0805JR-07270KL; ValueBOM: RC0805JR-07270KL   Yageo                            (270 кОм ±5%, 1/8 Вт, SMD 0805, RC0805JR-07270KL); Value: 270k; Part Number: RC0805JR-07270KL; Package: 0805; BOM1: 270 kOhm ±5% 1/8W 0805 SMD
footprint RESC_0805_2012N (Chip Resistor, Body 2.0x1.3mm, IPC Medium Density)
footprint RESC_0805_2012M (Chip Resistor, Body 2.0x1.3mm, IPC Low Density)
footprint RESC_0805_2012L (Chip Resistor, Body 2.0x1.3mm, IPC High Density)
pins: 1, 2

## RC0805JR-07270RL
designator R?, comment 270R
RC0805JR-07270RL 0805 270 Ohm ±5% 1/8W 0805 SMD -55C...+155C; Manufacturer: Yageo; BOM2: 270 Ом ±5%, 1/8 Вт, SMD 0805, RC0805JR-07270RL; ValueBOM: RC0805JR-07270RL   Yageo                            (270 Ом ±5%, 1/8 Вт, SMD 0805, RC0805JR-07270RL); Value: 270R; Part Number: RC0805JR-07270RL; Package: 0805; BOM1: 270 Ohm ±5% 1/8W 0805 SMD
footprint RESC_0805_2012N (Chip Resistor, Body 2.0x1.3mm, IPC Medium Density)
footprint RESC_0805_2012M (Chip Resistor, Body 2.0x1.3mm, IPC Low Density)
footprint RESC_0805_2012L (Chip Resistor, Body 2.0x1.3mm, IPC High Density)
pins: 1, 2

## RC0805JR-07300KL
designator R?, comment 300k
RC0805JR-07300KL 0805 300 kOhm ±5% 1/8W 0805 SMD -55C...+155C; Manufacturer: Yageo; BOM2: 300 кОм ±5%, 1/8 Вт, SMD 0805, RC0805JR-07300KL; ValueBOM: RC0805JR-07300KL   Yageo                            (300 кОм ±5%, 1/8 Вт, SMD 0805, RC0805JR-07300KL); Value: 300k; Part Number: RC0805JR-07300KL; Package: 0805; BOM1: 300 kOhm ±5% 1/8W 0805 SMD
footprint RESC_0805_2012N (Chip Resistor, Body 2.0x1.3mm, IPC Medium Density)
footprint RESC_0805_2012M (Chip Resistor, Body 2.0x1.3mm, IPC Low Density)
footprint RESC_0805_2012L (Chip Resistor, Body 2.0x1.3mm, IPC High Density)
pins: 1, 2

## RC0805JR-07300RL
designator R?, comment 300R
RC0805JR-07300RL 0805 300 Ohm ±5% 1/8W 0805 SMD -55C...+155C; Manufacturer: Yageo; BOM2: 300 Ом ±5%, 1/8 Вт, SMD 0805, RC0805JR-07300RL; ValueBOM: RC0805JR-07300RL   Yageo                            (300 Ом ±5%, 1/8 Вт, SMD 0805, RC0805JR-07300RL); Value: 300R; Part Number: RC0805JR-07300RL; Package: 0805; BOM1: 300 Ohm ±5% 1/8W 0805 SMD
footprint RESC_0805_2012N (Chip Resistor, Body 2.0x1.3mm, IPC Medium Density)
footprint RESC_0805_2012M (Chip Resistor, Body 2.0x1.3mm, IPC Low Density)
footprint RESC_0805_2012L (Chip Resistor, Body 2.0x1.3mm, IPC High Density)
pins: 1, 2

## RC0805JR-07330KL
designator R?, comment 330k
RC0805JR-07330KL 0805 330 kOhm ±5% 1/8W 0805 SMD -55C...+155C; Manufacturer: Yageo; BOM2: 330 кОм ±5%, 1/8 Вт, SMD 0805, RC0805JR-07330KL; ValueBOM: RC0805JR-07330KL   Yageo                            (330 кОм ±5%, 1/8 Вт, SMD 0805, RC0805JR-07330KL); Value: 330k; Part Number: RC0805JR-07330KL; Package: 0805; BOM1: 330 kOhm ±5% 1/8W 0805 SMD
footprint RESC_0805_2012N (Chip Resistor, Body 2.0x1.3mm, IPC Medium Density)
footprint RESC_0805_2012M (Chip Resistor, Body 2.0x1.3mm, IPC Low Density)
footprint RESC_0805_2012L (Chip Resistor, Body 2.0x1.3mm, IPC High Density)
pins: 1, 2

## RC0805JR-07330RL
designator R?, comment 330R
RC0805JR-07330RL 0805 330 Ohm ±5% 1/8W 0805 SMD -55C...+155C; Manufacturer: Yageo; BOM2: 330 Ом ±5%, 1/8 Вт, SMD 0805, RC0805JR-07330RL; ValueBOM: RC0805JR-07330RL   Yageo                            (330 Ом ±5%, 1/8 Вт, SMD 0805, RC0805JR-07330RL); Value: 330R; Part Number: RC0805JR-07330RL; Package: 0805; BOM1: 330 Ohm ±5% 1/8W 0805 SMD
footprint RESC_0805_2012N (Chip Resistor, Body 2.0x1.3mm, IPC Medium Density)
footprint RESC_0805_2012M (Chip Resistor, Body 2.0x1.3mm, IPC Low Density)
footprint RESC_0805_2012L (Chip Resistor, Body 2.0x1.3mm, IPC High Density)
pins: 1, 2

## RC0805JR-07360KL
designator R?, comment 360k
RC0805JR-07360KL 0805 360 kOhm ±5% 1/8W 0805 SMD -55C...+155C; Manufacturer: Yageo; BOM2: 360 кОм ±5%, 1/8 Вт, SMD 0805, RC0805JR-07360KL; ValueBOM: RC0805JR-07360KL   Yageo                            (360 кОм ±5%, 1/8 Вт, SMD 0805, RC0805JR-07360KL); Value: 360k; Part Number: RC0805JR-07360KL; Package: 0805; BOM1: 360 kOhm ±5% 1/8W 0805 SMD
footprint RESC_0805_2012N (Chip Resistor, Body 2.0x1.3mm, IPC Medium Density)
footprint RESC_0805_2012M (Chip Resistor, Body 2.0x1.3mm, IPC Low Density)
footprint RESC_0805_2012L (Chip Resistor, Body 2.0x1.3mm, IPC High Density)
pins: 1, 2

## RC0805JR-07360RL
designator R?, comment 360R
RC0805JR-07360RL 0805 360 Ohm ±5% 1/8W 0805 SMD -55C...+155C; Manufacturer: Yageo; BOM2: 360 Ом ±5%, 1/8 Вт, SMD 0805, RC0805JR-07360RL; ValueBOM: RC0805JR-07360RL   Yageo                            (360 Ом ±5%, 1/8 Вт, SMD 0805, RC0805JR-07360RL); Value: 360R; Part Number: RC0805JR-07360RL; Package: 0805; BOM1: 360 Ohm ±5% 1/8W 0805 SMD
footprint RESC_0805_2012N (Chip Resistor, Body 2.0x1.3mm, IPC Medium Density)
footprint RESC_0805_2012M (Chip Resistor, Body 2.0x1.3mm, IPC Low Density)
footprint RESC_0805_2012L (Chip Resistor, Body 2.0x1.3mm, IPC High Density)
pins: 1, 2

## RC0805JR-07390KL
designator R?, comment 390k
RC0805JR-07390KL 0805 390 kOhm ±5% 1/8W 0805 SMD -55C...+155C; Manufacturer: Yageo; BOM2: 390 кОм ±5%, 1/8 Вт, SMD 0805, RC0805JR-07390KL; ValueBOM: RC0805JR-07390KL   Yageo                            (390 кОм ±5%, 1/8 Вт, SMD 0805, RC0805JR-07390KL); Value: 390k; Part Number: RC0805JR-07390KL; Package: 0805; BOM1: 390 kOhm ±5% 1/8W 0805 SMD
footprint RESC_0805_2012N (Chip Resistor, Body 2.0x1.3mm, IPC Medium Density)
footprint RESC_0805_2012M (Chip Resistor, Body 2.0x1.3mm, IPC Low Density)
footprint RESC_0805_2012L (Chip Resistor, Body 2.0x1.3mm, IPC High Density)
pins: 1, 2

## RC0805JR-07390RL
designator R?, comment 390R
RC0805JR-07390RL 0805 390 Ohm ±5% 1/8W 0805 SMD -55C...+155C; Manufacturer: Yageo; BOM2: 390 Ом ±5%, 1/8 Вт, SMD 0805, RC0805JR-07390RL; ValueBOM: RC0805JR-07390RL   Yageo                            (390 Ом ±5%, 1/8 Вт, SMD 0805, RC0805JR-07390RL); Value: 390R; Part Number: RC0805JR-07390RL; Package: 0805; BOM1: 390 Ohm ±5% 1/8W 0805 SMD
footprint RESC_0805_2012N (Chip Resistor, Body 2.0x1.3mm, IPC Medium Density)
footprint RESC_0805_2012M (Chip Resistor, Body 2.0x1.3mm, IPC Low Density)
footprint RESC_0805_2012L (Chip Resistor, Body 2.0x1.3mm, IPC High Density)
pins: 1, 2

## RC0805JR-07430KL
designator R?, comment 430k
RC0805JR-07430KL 0805 430 kOhm ±5% 1/8W 0805 SMD -55C...+155C; Manufacturer: Yageo; BOM2: 430 кОм ±5%, 1/8 Вт, SMD 0805, RC0805JR-07430KL; ValueBOM: RC0805JR-07430KL   Yageo                            (430 кОм ±5%, 1/8 Вт, SMD 0805, RC0805JR-07430KL); Value: 430k; Part Number: RC0805JR-07430KL; Package: 0805; BOM1: 430 kOhm ±5% 1/8W 0805 SMD
footprint RESC_0805_2012N (Chip Resistor, Body 2.0x1.3mm, IPC Medium Density)
footprint RESC_0805_2012M (Chip Resistor, Body 2.0x1.3mm, IPC Low Density)
footprint RESC_0805_2012L (Chip Resistor, Body 2.0x1.3mm, IPC High Density)
pins: 1, 2

## RC0805JR-07430RL
designator R?, comment 430R
RC0805JR-07430RL 0805 430 Ohm ±5% 1/8W 0805 SMD -55C...+155C; Manufacturer: Yageo; BOM2: 430 Ом ±5%, 1/8 Вт, SMD 0805, RC0805JR-07430RL; ValueBOM: RC0805JR-07430RL   Yageo                            (430 Ом ±5%, 1/8 Вт, SMD 0805, RC0805JR-07430RL); Value: 430R; Part Number: RC0805JR-07430RL; Package: 0805; BOM1: 430 Ohm ±5% 1/8W 0805 SMD
footprint RESC_0805_2012N (Chip Resistor, Body 2.0x1.3mm, IPC Medium Density)
footprint RESC_0805_2012M (Chip Resistor, Body 2.0x1.3mm, IPC Low Density)
footprint RESC_0805_2012L (Chip Resistor, Body 2.0x1.3mm, IPC High Density)
pins: 1, 2

## RC0805JR-07470KL
designator R?, comment 470k
RC0805JR-07470KL 0805 470 kOhm ±5% 1/8W 0805 SMD -55C...+155C; Manufacturer: Yageo; BOM2: 470 кОм ±5%, 1/8 Вт, SMD 0805, RC0805JR-07470KL; ValueBOM: RC0805JR-07470KL   Yageo                            (470 кОм ±5%, 1/8 Вт, SMD 0805, RC0805JR-07470KL); Value: 470k; Part Number: RC0805JR-07470KL; Package: 0805; BOM1: 470 kOhm ±5% 1/8W 0805 SMD
footprint RESC_0805_2012N (Chip Resistor, Body 2.0x1.3mm, IPC Medium Density)
footprint RESC_0805_2012M (Chip Resistor, Body 2.0x1.3mm, IPC Low Density)
footprint RESC_0805_2012L (Chip Resistor, Body 2.0x1.3mm, IPC High Density)
pins: 1, 2

## RC0805JR-07470RL
designator R?, comment 470R
RC0805JR-07470RL 0805 470 Ohm ±5% 1/8W 0805 SMD -55C...+155C; Manufacturer: Yageo; BOM2: 470 Ом ±5%, 1/8 Вт, SMD 0805, RC0805JR-07470RL; ValueBOM: RC0805JR-07470RL   Yageo                            (470 Ом ±5%, 1/8 Вт, SMD 0805, RC0805JR-07470RL); Value: 470R; Part Number: RC0805JR-07470RL; Package: 0805; BOM1: 470 Ohm ±5% 1/8W 0805 SMD
footprint RESC_0805_2012N (Chip Resistor, Body 2.0x1.3mm, IPC Medium Density)
footprint RESC_0805_2012M (Chip Resistor, Body 2.0x1.3mm, IPC Low Density)
footprint RESC_0805_2012L (Chip Resistor, Body 2.0x1.3mm, IPC High Density)
pins: 1, 2

## RC0805JR-07510KL
designator R?, comment 510k
RC0805JR-07510KL 0805 510 kOhm ±5% 1/8W 0805 SMD -55C...+155C; Manufacturer: Yageo; BOM2: 510 кОм ±5%, 1/8 Вт, SMD 0805, RC0805JR-07510KL; ValueBOM: RC0805JR-07510KL   Yageo                            (510 кОм ±5%, 1/8 Вт, SMD 0805, RC0805JR-07510KL); Value: 510k; Part Number: RC0805JR-07510KL; Package: 0805; BOM1: 510 kOhm ±5% 1/8W 0805 SMD
footprint RESC_0805_2012N (Chip Resistor, Body 2.0x1.3mm, IPC Medium Density)
footprint RESC_0805_2012M (Chip Resistor, Body 2.0x1.3mm, IPC Low Density)
footprint RESC_0805_2012L (Chip Resistor, Body 2.0x1.3mm, IPC High Density)
pins: 1, 2

## RC0805JR-07510RL
designator R?, comment 510R
RC0805JR-07510RL 0805 510 Ohm ±5% 1/8W 0805 SMD -55C...+155C; Manufacturer: Yageo; BOM2: 510 Ом ±5%, 1/8 Вт, SMD 0805, RC0805JR-07510RL; ValueBOM: RC0805JR-07510RL   Yageo                            (510 Ом ±5%, 1/8 Вт, SMD 0805, RC0805JR-07510RL); Value: 510R; Part Number: RC0805JR-07510RL; Package: 0805; BOM1: 510 Ohm ±5% 1/8W 0805 SMD
footprint RESC_0805_2012N (Chip Resistor, Body 2.0x1.3mm, IPC Medium Density)
footprint RESC_0805_2012M (Chip Resistor, Body 2.0x1.3mm, IPC Low Density)
footprint RESC_0805_2012L (Chip Resistor, Body 2.0x1.3mm, IPC High Density)
pins: 1, 2

## RC0805JR-07560KL
designator R?, comment 560k
RC0805JR-07560KL 0805 560 kOhm ±5% 1/8W 0805 SMD -55C...+155C; Manufacturer: Yageo; BOM2: 560 кОм ±5%, 1/8 Вт, SMD 0805, RC0805JR-07560KL; ValueBOM: RC0805JR-07560KL   Yageo                            (560 кОм ±5%, 1/8 Вт, SMD 0805, RC0805JR-07560KL); Value: 560k; Part Number: RC0805JR-07560KL; Package: 0805; BOM1: 560 kOhm ±5% 1/8W 0805 SMD
footprint RESC_0805_2012N (Chip Resistor, Body 2.0x1.3mm, IPC Medium Density)
footprint RESC_0805_2012M (Chip Resistor, Body 2.0x1.3mm, IPC Low Density)
footprint RESC_0805_2012L (Chip Resistor, Body 2.0x1.3mm, IPC High Density)
pins: 1, 2

## RC0805JR-07560RL
designator R?, comment 560R
RC0805JR-07560RL 0805 560 Ohm ±5% 1/8W 0805 SMD -55C...+155C; Manufacturer: Yageo; BOM2: 560 Ом ±5%, 1/8 Вт, SMD 0805, RC0805JR-07560RL; ValueBOM: RC0805JR-07560RL   Yageo                            (560 Ом ±5%, 1/8 Вт, SMD 0805, RC0805JR-07560RL); Value: 560R; Part Number: RC0805JR-07560RL; Package: 0805; BOM1: 560 Ohm ±5% 1/8W 0805 SMD
footprint RESC_0805_2012N (Chip Resistor, Body 2.0x1.3mm, IPC Medium Density)
footprint RESC_0805_2012M (Chip Resistor, Body 2.0x1.3mm, IPC Low Density)
footprint RESC_0805_2012L (Chip Resistor, Body 2.0x1.3mm, IPC High Density)
pins: 1, 2

## RC0805JR-07620KL
designator R?, comment 620k
RC0805JR-07620KL 0805 620 kOhm ±5% 1/8W 0805 SMD -55C...+155C; Manufacturer: Yageo; BOM2: 620 кОм ±5%, 1/8 Вт, SMD 0805, RC0805JR-07620KL; ValueBOM: RC0805JR-07620KL   Yageo                            (620 кОм ±5%, 1/8 Вт, SMD 0805, RC0805JR-07620KL); Value: 620k; Part Number: RC0805JR-07620KL; Package: 0805; BOM1: 620 kOhm ±5% 1/8W 0805 SMD
footprint RESC_0805_2012N (Chip Resistor, Body 2.0x1.3mm, IPC Medium Density)
footprint RESC_0805_2012M (Chip Resistor, Body 2.0x1.3mm, IPC Low Density)
footprint RESC_0805_2012L (Chip Resistor, Body 2.0x1.3mm, IPC High Density)
pins: 1, 2

## RC0805JR-07620RL
designator R?, comment 620R
RC0805JR-07620RL 0805 620 Ohm ±5% 1/8W 0805 SMD -55C...+155C; Manufacturer: Yageo; BOM2: 620 Ом ±5%, 1/8 Вт, SMD 0805, RC0805JR-07620RL; ValueBOM: RC0805JR-07620RL   Yageo                            (620 Ом ±5%, 1/8 Вт, SMD 0805, RC0805JR-07620RL); Value: 620R; Part Number: RC0805JR-07620RL; Package: 0805; BOM1: 620 Ohm ±5% 1/8W 0805 SMD
footprint RESC_0805_2012N (Chip Resistor, Body 2.0x1.3mm, IPC Medium Density)
footprint RESC_0805_2012M (Chip Resistor, Body 2.0x1.3mm, IPC Low Density)
footprint RESC_0805_2012L (Chip Resistor, Body 2.0x1.3mm, IPC High Density)
pins: 1, 2

## RC0805JR-07680KL
designator R?, comment 680k
RC0805JR-07680KL 0805 680 kOhm ±5% 1/8W 0805 SMD -55C...+155C; Manufacturer: Yageo; BOM2: 680 кОм ±5%, 1/8 Вт, SMD 0805, RC0805JR-07680KL; ValueBOM: RC0805JR-07680KL   Yageo                            (680 кОм ±5%, 1/8 Вт, SMD 0805, RC0805JR-07680KL); Value: 680k; Part Number: RC0805JR-07680KL; Package: 0805; BOM1: 680 kOhm ±5% 1/8W 0805 SMD
footprint RESC_0805_2012N (Chip Resistor, Body 2.0x1.3mm, IPC Medium Density)
footprint RESC_0805_2012M (Chip Resistor, Body 2.0x1.3mm, IPC Low Density)
footprint RESC_0805_2012L (Chip Resistor, Body 2.0x1.3mm, IPC High Density)
pins: 1, 2

## RC0805JR-07680RL
designator R?, comment 680R
RC0805JR-07680RL 0805 680 Ohm ±5% 1/8W 0805 SMD -55C...+155C; Manufacturer: Yageo; BOM2: 680 Ом ±5%, 1/8 Вт, SMD 0805, RC0805JR-07680RL; ValueBOM: RC0805JR-07680RL   Yageo                            (680 Ом ±5%, 1/8 Вт, SMD 0805, RC0805JR-07680RL); Value: 680R; Part Number: RC0805JR-07680RL; Package: 0805; BOM1: 680 Ohm ±5% 1/8W 0805 SMD
footprint RESC_0805_2012N (Chip Resistor, Body 2.0x1.3mm, IPC Medium Density)
footprint RESC_0805_2012M (Chip Resistor, Body 2.0x1.3mm, IPC Low Density)
footprint RESC_0805_2012L (Chip Resistor, Body 2.0x1.3mm, IPC High Density)
pins: 1, 2

## RC0805JR-07750KL
designator R?, comment 750k
RC0805JR-07750KL 0805 750 kOhm ±5% 1/8W 0805 SMD -55C...+155C; Manufacturer: Yageo; BOM2: 750 кОм ±5%, 1/8 Вт, SMD 0805, RC0805JR-07750KL; ValueBOM: RC0805JR-07750KL   Yageo                            (750 кОм ±5%, 1/8 Вт, SMD 0805, RC0805JR-07750KL); Value: 750k; Part Number: RC0805JR-07750KL; Package: 0805; BOM1: 750 kOhm ±5% 1/8W 0805 SMD
footprint RESC_0805_2012N (Chip Resistor, Body 2.0x1.3mm, IPC Medium Density)
footprint RESC_0805_2012M (Chip Resistor, Body 2.0x1.3mm, IPC Low Density)
footprint RESC_0805_2012L (Chip Resistor, Body 2.0x1.3mm, IPC High Density)
pins: 1, 2

## RC0805JR-07750RL
designator R?, comment 750R
RC0805JR-07750RL 0805 750 Ohm ±5% 1/8W 0805 SMD -55C...+155C; Manufacturer: Yageo; BOM2: 750 Ом ±5%, 1/8 Вт, SMD 0805, RC0805JR-07750RL; ValueBOM: RC0805JR-07750RL   Yageo                            (750 Ом ±5%, 1/8 Вт, SMD 0805, RC0805JR-07750RL); Value: 750R; Part Number: RC0805JR-07750RL; Package: 0805; BOM1: 750 Ohm ±5% 1/8W 0805 SMD
footprint RESC_0805_2012N (Chip Resistor, Body 2.0x1.3mm, IPC Medium Density)
footprint RESC_0805_2012M (Chip Resistor, Body 2.0x1.3mm, IPC Low Density)
footprint RESC_0805_2012L (Chip Resistor, Body 2.0x1.3mm, IPC High Density)
pins: 1, 2